# Altium schematic symbol library OSC100MHz-SMD.SchLib: 1 symbol
Pins are listed as number, name and electrical type; pins without a type are passive.

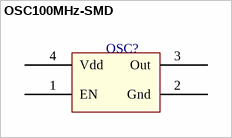
[diagram p0: symbol OSC100MHz-SMD]

## OSC100MHz-SMD
designator OSC?  (value not drawn)
pins: 1 EN, 2 Gnd, 3 Out, 4 Vdd